# Altium footprint library PcbLib.PcbLib: 10 footprints
Each footprint in its own frame and in the unit in brackets; x right, y up, seen from the top. Pads: shape width x height; smd on the part's side, far side on the other; paste and mask are expansions set on the pad; w line width, h text height; cw(c..) or ccw(c..) is an arc to the next point about the centre after c.
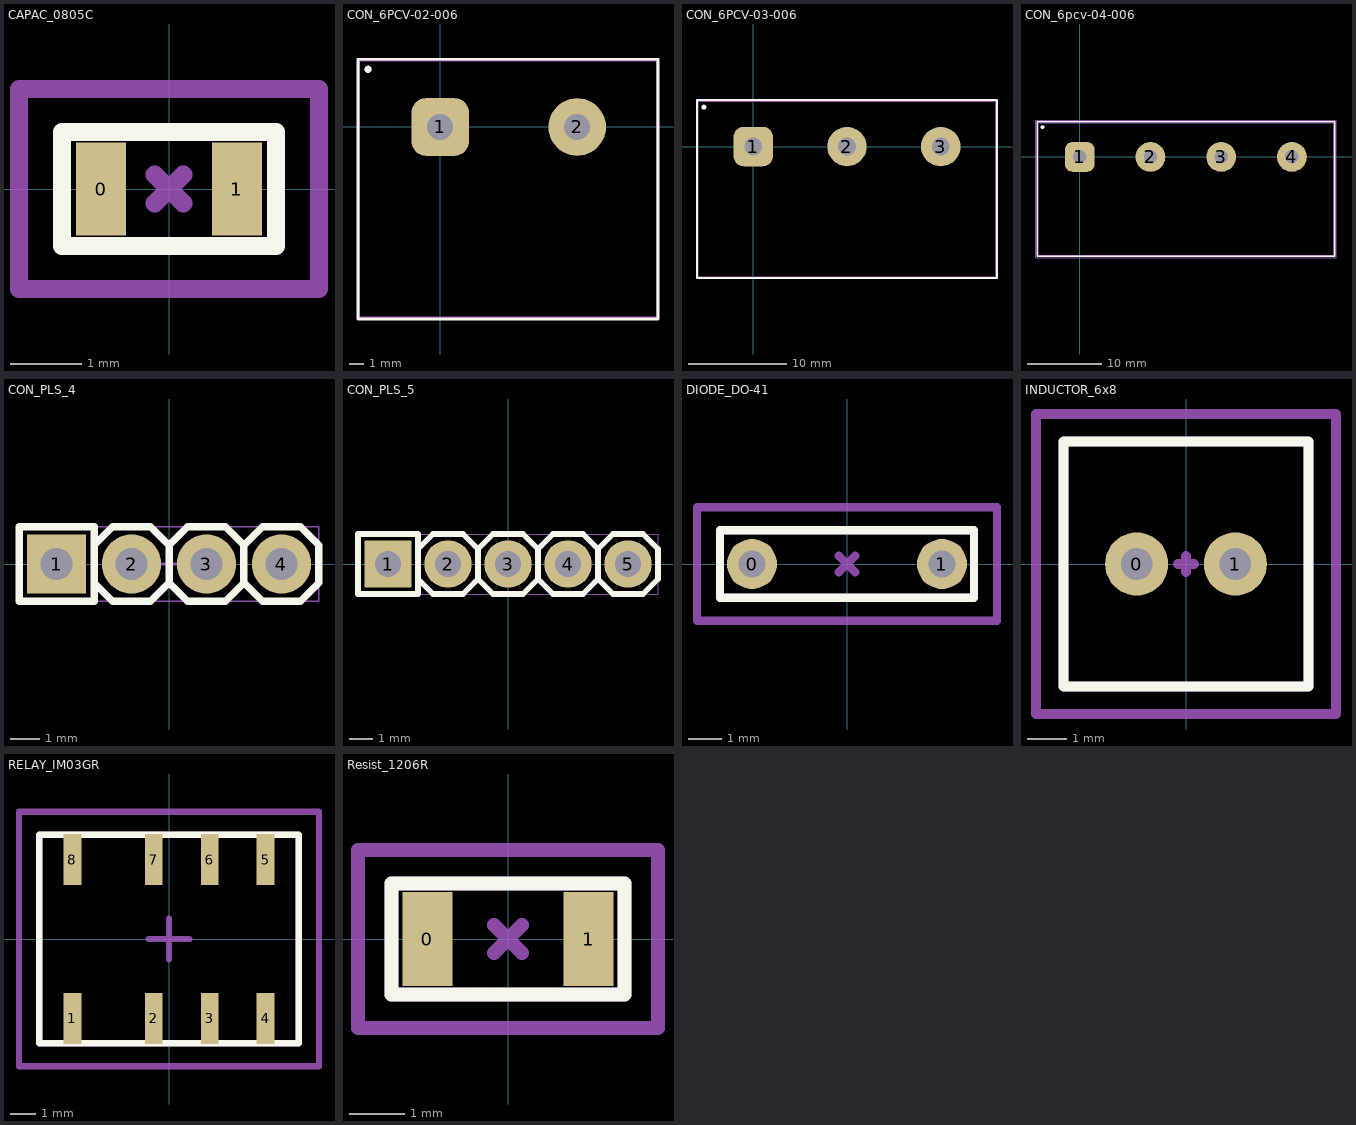
[diagram p0: the footprints below, top view; thin cyan lines are the x and y axes]

## CAPAC_0805C [mm]
pads (2):
  rect 0.7x1.3 smd: 0(-0.95,0) 1(0.95,0)
Top Overlay:
  lines w0.254: -1.5,-0.8 -1.5,0.8 1.5,0.8 1.5,-0.8 -1.5,-0.8
Top Assy:
  lines w0.254: -1.5,-0.8 1.5,-0.8 1.5,0.8 -1.5,0.8 -1.5,-0.8
Border:
  lines w0.254: -0.2,-0.2 0.2,0.2 ; -0.2,0.2 0.2,-0.2 ; -2.1,-1.4 -2.1,1.4 2.1,1.4 2.1,-1.4 -2.1,-1.4
3D body "SMD0805C.stp": height 1.3, standoff 0, extent -1,-0.625 1,0.625

## CON_6PCV-02-006 [mm]
pads (4):
  rrect50% 4x4 hole 1.8: 1(0,0)
  round 4 hole 1.8: 2(9.5,0)
  round 0.5 on Top Overlay: ""(-5,4)
  round 0.5 on Mech1: ""(-5,4)
Top Overlay:
  lines w0.2: -5.7,-13.3 15.1,-13.3 15.1,4.7 -5.7,4.7 -5.7,-13.3
Top Assy:
  lines w0.1: -5.6,-13.2 15,-13.2 15,4.58 -5.6,4.58 -5.6,-13.2
  text "1" at -0.2,-3.6 h2
  text "2" at 9.2,-3.6 h2
Border:
  lines w0.1: -5.7,-13.3 -5.7,4.7 15.1,4.7 15.1,-13.3 -5.7,-13.3
3D body "02.STEP": height 15.96, standoff -4.99, extent -5.6,-13.2 15,4.58

## CON_6PCV-03-006 [mm]
pads (4):
  rrect50% 4x4 hole 1.8: 1(0,0)
  round 4 hole 1.8: 2(9.5,0) 3(19,0)
  round 0.5 on Top Overlay: ""(-5,4)
Top Overlay:
  lines w0.2: -5.7,-13.3 24.7,-13.3 24.7,4.7 -5.7,4.7 -5.7,-13.3
Top Assy:
  lines w0.1: -5.562,-13.2 24.562,-13.2 24.562,4.58 -5.562,4.58 -5.562,-13.2
  text "3" at 18.8,-3.6 h2
  text "2" at 9.2,-3.6 h2
  text "1" at -0.2,-3.6 h2
Border:
  lines w0.1: -5.675,-13.3 24.675,-13.3 24.675,4.675 -5.675,4.675 -5.675,-13.3
3D body "03.STEP": height 15.96, standoff -4.99, extent -5.562,-13.2 24.562,4.58

## CON_6pcv-04-006 [mm]
pads (6):
  rrect50% 4x4 hole 1.8: 1(0,0)
  round 4 hole 1.8: 2(9.5,0) 3(19,0) 4(28.5,0)
  round 0.5 on Top Overlay: ""(-5,4)
  round 0.5 on Mech1: ""(-5,4)
Top Overlay:
  lines w0.2: -5.7,-13.35 34.25,-13.35 34.25,4.725 -5.7,4.725 -5.7,-13.35
Top Assy:
  lines w0.1: -5.55,-13.2 34.1,-13.2 34.1,4.58 -5.55,4.58 -5.55,-13.2
  text "4" at 28.2,-3.6 h2
  text "3" at 18.8,-3.6 h2
  text "2" at 9.2,-3.6 h2
  text "1" at -0.2,-3.6 h2
Border:
  lines w0.1: -5.875,-13.525 34.425,-13.525 34.425,4.9 -5.875,4.9 -5.875,-13.525
3D body "6pcv-04-006.STEP": height 15.96, standoff -4.99, extent -5.525,-13.18 34.125,4.6

## CON_PLS_4 [mm]
pads (4):
  rect 2x2 hole 1.1: 1(-3.81,0)
  round 2 hole 1.1: 2(-1.27,0) 3(1.27,0) 4(3.81,0)
Top Overlay:
  lines w0.254: -2.54,-0.635 -1.905,-1.27 -0.635,-1.27 0,-0.635 ; -2.54,0.635 -1.905,1.27 -0.635,1.27 0,0.635 ; 0,-0.635 0.635,-1.27 1.905,-1.27 2.54,-0.635 ; 0,-0.635 0,0.635 ; 0,0.635 0.635,1.27 1.905,1.27 2.54,0.635 ; 2.54,-0.635 3.175,-1.27 4.445,-1.27 5.08,-0.635 5.08,0.635 4.445,1.27 3.175,1.27 2.54,0.635 ; 2.54,-0.635 2.54,0.635 ; -5.08,-1.27 -2.54,-1.27 -2.54,1.27 -5.08,1.27 -5.08,-1.27
Top Assy:
  lines w0.1: -2.54,-0.635 -1.905,-1.27 -0.635,-1.27 0,-0.635 ; -2.54,0.635 -1.905,1.27 -0.635,1.27 0,0.635 ; 0,-0.635 0,0.635 ; 0,-0.635 0.635,-1.27 1.905,-1.27 2.54,-0.635 ; 0,0.635 0.635,1.27 1.905,1.27 2.54,0.635 ; 2.54,-0.635 2.54,0.635 ; 2.54,-0.635 3.175,-1.27 4.445,-1.27 5.08,-0.635 5.08,0.635 4.445,1.27 3.175,1.27 2.54,0.635 ; -5.08,-1.27 -5.08,1.27 -2.54,1.27 -2.54,-1.27 -5.08,-1.27
Border:
  lines w0.05: -5.08,-1.27 -5.08,1.27 5.08,1.27 5.08,-1.27 -5.08,-1.27
  lines w0.1: -0.5,0 0.5,0 ; 0,-0.5 0,0.5
3D body "PLS-4.STEP": height 8.54, standoff -3, extent -5.08,-1.27 5.08,1.27

## CON_PLS_5 [mm]
pads (5):
  rect 2x2 hole 1.1: 1(-5.08,0)
  round 2 hole 1.1: 2(-2.54,0) 3(0,0) 4(2.54,0) 5(5.08,0)
Top Overlay:
  lines w0.254: -3.81,-0.635 -3.175,-1.27 -1.905,-1.27 -1.27,-0.635 ; -3.81,0.635 -3.175,1.27 -1.905,1.27 -1.27,0.635 ; -1.27,-0.635 -1.27,0.635 ; -1.27,-0.635 -0.635,-1.27 0.635,-1.27 1.27,-0.635 ; -1.27,0.635 -0.635,1.27 0.635,1.27 1.27,0.635 ; 1.27,-0.635 1.27,0.635 ; 1.27,-0.635 1.905,-1.27 3.175,-1.27 3.81,-0.635 ; 1.27,0.635 1.905,1.27 3.175,1.27 3.81,0.635 ; 3.81,-0.635 3.81,0.635 ; 3.81,-0.635 4.445,-1.27 5.715,-1.27 6.35,-0.635 6.35,0.635 5.715,1.27 4.445,1.27 3.81,0.635 ; -6.35,-1.27 -6.35,1.27 -3.81,1.27 -3.81,-1.27 -6.35,-1.27
Top Assy:
  lines w0.1: -3.81,-0.635 -3.175,-1.27 -1.905,-1.27 -1.27,-0.635 ; -3.81,0.635 -3.175,1.27 -1.905,1.27 -1.27,0.635 ; -1.27,-0.635 -0.635,-1.27 0.635,-1.27 1.27,-0.635 ; -1.27,-0.635 -1.27,0.635 ; -1.27,0.635 -0.635,1.27 0.635,1.27 1.27,0.635 ; 1.27,-0.635 1.905,-1.27 3.175,-1.27 3.81,-0.635 ; 1.27,-0.635 1.27,0.635 ; 1.27,0.635 1.905,1.27 3.175,1.27 3.81,0.635 ; 3.81,-0.635 4.445,-1.27 5.715,-1.27 6.35,-0.635 6.35,0.635 5.715,1.27 4.445,1.27 3.81,0.635 ; 3.81,-0.635 3.81,0.635 ; -6.35,-1.27 -3.81,-1.27 -3.81,1.27 -6.35,1.27 -6.35,-1.27
Border:
  lines w0.05: -6.35,-1.27 6.35,-1.27 6.35,1.27 -6.35,1.27 -6.35,-1.27
  lines w0.1: -0.5,0 0.5,0 ; 0,-0.5 0,0.5
3D body "PLS-5.STEP": height 8.54, standoff -3, extent -6.35,-1.27 6.35,1.27

## DIODE_DO-41 [mm]
pads (2):
  round 1.5 hole 0.8: 0(-2.85,0) 1(2.85,0)
Top Overlay:
  lines w0.254: -3.81,-1.016 3.81,-1.016 3.81,1.016 -3.81,1.016 -3.81,-1.016
Top Assy:
  lines w0.254: -3.81,-1.016 -3.81,1.016 3.81,1.016 3.81,-1.016 -3.81,-1.016
Border:
  lines w0.254: -0.254,-0.254 0.254,0.254 ; -0.254,0.254 0.254,-0.254 ; -4.5,-1.7 -4.5,1.7 4.5,1.7 4.5,-1.7 -4.5,-1.7
3D body "DO-41.stp": height 11, standoff -3, extent -3.249,-0.998 3.249,0.998

## INDUCTOR_6x8 [mm]
pads (2):
  round 1.6 hole 0.8: 0(-1.25,0) 1(1.25,0)
Top Overlay:
  lines w0.254: -3.1,-3.1 3.1,-3.1 3.1,3.1 -3.1,3.1 -3.1,-3.1
Top Assy:
  lines w0.254: -3.1,-3.1 3.1,-3.1 3.1,3.1 -3.1,3.1 -3.1,-3.1
Border:
  lines w0.254: -0.2,0 0.2,0 ; 0,-0.2 0,0.2 ; -3.8,-3.8 3.8,-3.8 3.8,3.8 -3.8,3.8 -3.8,-3.8
3D body "SMD6x8L.stp": height 20, standoff -3, extent -3,-3 3,3

## RELAY_IM03GR [mm]
pads (8):
  rect 0.7x2 smd: 1(-3.8,-3.125) 2(-0.6,-3.125) 3(1.6,-3.125) 4(3.8,-3.125) 5(3.8,3.125) 6(1.6,3.125) 7(-0.6,3.125) 8(-3.8,3.125)
Top Overlay:
  lines w0.254: -5.1,-4.1 -5.1,4.1 5.1,4.1 5.1,-4.1 -5.1,-4.1
Top Assy:
  lines w0.254: -5.1,-4.1 -5.1,4.1 5.1,4.1 5.1,-4.1 -5.1,-4.1
Border:
  lines w0.254: -0.8,0 0.8,0 ; 0,-0.8 0,0.8 ; -5.9,-5 -5.9,5 5.9,5 5.9,-5 -5.9,-5
3D body "IM03GR.stp": height 5.65, standoff 0, extent -5,-3.76 5,3.76

## Resist_1206R [mm]
pads (2):
  rect 0.9x1.7 smd: 0(-1.45,0) 1(1.45,0)
Top Overlay:
  lines w0.254: -2.1,-1 -2.1,1 2.1,1 2.1,-1 -2.1,-1
Top Assy:
  lines w0.254: -2.1,-1 -2.1,1 2.1,1 2.1,-1 -2.1,-1
Border:
  lines w0.254: -0.254,-0.254 0.254,0.254 ; -0.254,0.254 0.254,-0.254 ; -2.7,-1.6 2.7,-1.6 2.7,1.6 -2.7,1.6 -2.7,-1.6
3D body "SMD1206R.stp": height 0.55, standoff 0, extent -1.55,-0.8 1.55,0.8